# EAGLE library part 74*14 (library IC_Logic)
Hex schmitt trigger INVERTER
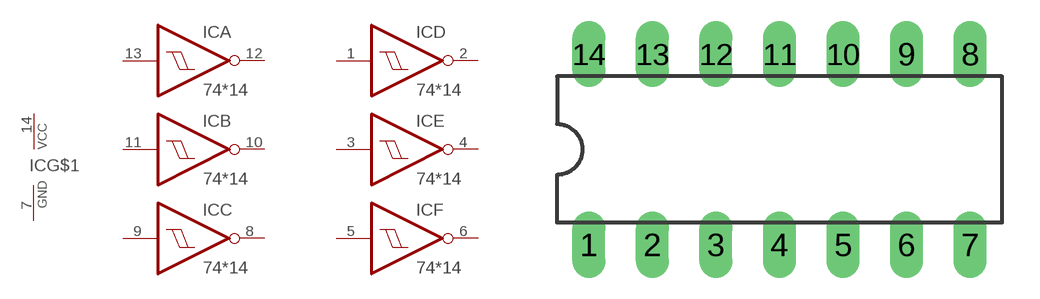
[diagram p25: symbol with the pads of DIL14; footprint DIL14]

Designator prefix IC; gates A=7414 B=7414 C=7414 D=7414 E=7414 F=7414 G$1=PWRN

## 7414N (CATEGORY: IC_Logic; SUB-CATEGORY: Inverter; VALUE: 7414), 74AC14N (CATEGORY: IC_Logic; SUB-CATEGORY: Inverter; VALUE: 7414), 74ACT14N (CATEGORY: IC_Logic; SUB-CATEGORY: Inverter; VALUE: 7414), 74HC14N (CATEGORY: IC_Logic; SUB-CATEGORY: Inverter; VALUE: 7414), 74HCT14N (CATEGORY: IC_Logic; SUB-CATEGORY: Inverter; VALUE: 7414), 74LS14N (CATEGORY: IC_Logic; SUB-CATEGORY: Inverter; VALUE: 7414)  [DIL14]
1  D:I  in
2  D:O  out
3  E:I  in
4  E:O  out
5  F:I  in
6  F:O  out
7  G$1:GND  pwr
8  C:O  out
9  C:I  in
10  B:O  out
11  B:I  in
12  A:O  out
13  A:I  in
14  G$1:VCC  pwr

## Footprint DIL14 (pad centres in mm)
Dual In Line Package
drill 0.813 long: 1 -7.62,-3.81; 2 -5.08,-3.81; 3 -2.54,-3.81; 4 0,-3.81; 5 2.54,-3.81; 6 5.08,-3.81; 7 7.62,-3.81; 8 7.62,3.81; 9 5.08,3.81; 10 2.54,3.81; 11 0,3.81; 12 -2.54,3.81; 13 -5.08,3.81; 14 -7.62,3.81